# Altium schematic symbol library LM1117MP-3.3.SchLib: 1 symbol
Pins are listed as number, name and electrical type; pins without a type are passive.

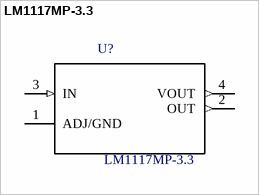
[diagram p0: symbol LM1117MP-3.3]

## LM1117MP-3.3
designator U?
LDO Regulator Pos 3.3V 0.8A 4-Pin_3+Tab_ SOT-223 T/R; MF: Texas Instruments; Package: SOT-223 Texas Instruments; MP: LM1117MP-3.3; Availability: Good; SnapEDA_Link: https://www.snapeda.com/parts/LM1117MP-3.3/Texas%20Instruments/view-part/?ref=snap; Price: 0.62 USD; Value: *
footprint SOT230P696X180-4N
pins: 1 ADJ/GND, 2 OUT (out), 3 IN (in), 4 VOUT (out)